# Altium footprint library BAT_BAT-HLD-002-SMT.PcbLib: 1 footprints
Each footprint in its own frame and in the unit in brackets; x right, y up, seen from the top. Pads: shape width x height; smd on the part's side, far side on the other; paste and mask are expansions set on the pad; w line width, h text height; cw(c..) or ccw(c..) is an arc to the next point about the centre after c.
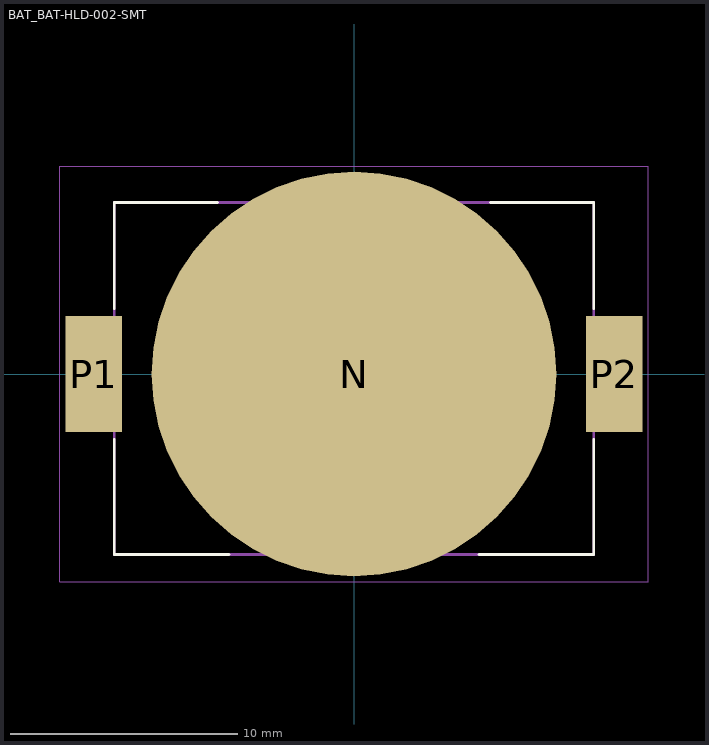
[diagram p0: the footprint, top view; thin cyan lines are the x and y axes]

## BAT_BAT-HLD-002-SMT [mm]
pads (3):
  round 17.8 smd paste-10: N(0,0)
  rect 2.5x5.1 smd: P1(-11.45,0) P2(11.45,0)
Top Overlay:
  lines w0.127: -10.55,-2.87 -10.55,-7.95 -5.5,-7.95 ; -10.55,2.87 -10.55,7.55 -6,7.55 ; 5.5,-7.95 10.55,-7.95 10.55,-2.87 ; 6,7.55 10.55,7.55 10.55,2.87
Mechanical 13:
  lines w0.127: -10.55,-7.95 10.55,-7.95 10.55,7.55 -10.55,7.55 -10.55,-7.95
Mechanical 15:
  lines w0.05: -12.95,-9.15 12.95,-9.15 12.95,9.15 -12.95,9.15 -12.95,-9.15
3D body "step_temp.STEP": height 2.79, standoff 0, extent -11.43,-7.747 11.43,7.747